# Altium schematic symbol library ADP171.SchLib: 1 symbol
Pins are listed as number, name and electrical type; pins without a type are passive.

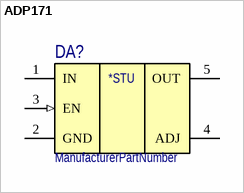
[diagram p0: symbol ADP171]

## ADP171
designator DA?  (value not drawn)
ManufacturerPartNumber: ManufacturerPartNumber
pins: 1 IN (power), 2 GND (power), 3 EN (in), 4 ADJ, 5 OUT (power)
text: *STU